# Altium schematic symbol library con-omron.SCHLIB: 107 symbols (part 2 of 3)

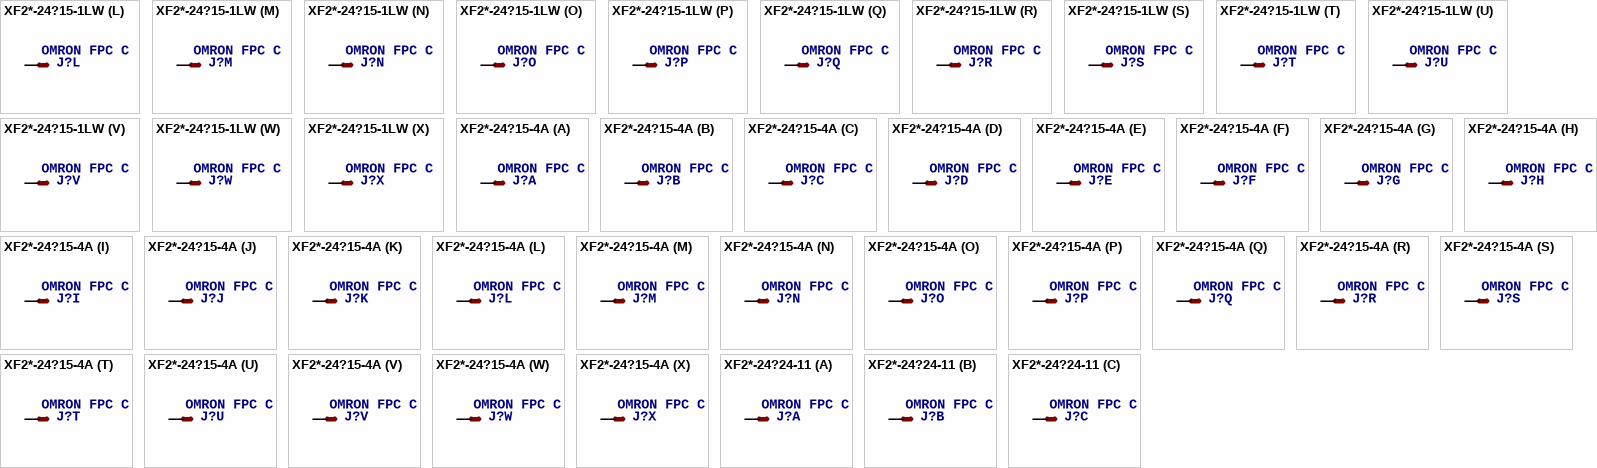
[diagram p23: symbols XF2*-24?15-1LW to XF2*-24?24-11]

## XF2*-24?15-1LW
designator J?, comment OMRON FPC Connector   Source : http://www.omron.com/ecb/products/pdf/fpc.pdf
MPN: XF2H-2415-1LW; MF: OMRON COMPONENTS USA; OC_FARNELL: unknown; OC_NEWARK: 12J5142
footprint XF2H-2415-1LW
part A pins: 1 MSV
part B pins: 2 MS
part C pins: 3 MS
part D pins: 4 MS
part E pins: 5 MS
part F pins: 6 MS
part G pins: 7 MS
part H pins: 8 MS
part I pins: 9 MS
part J pins: 10 MS
part K pins: 11 MS
part L pins: 12 MS
part M pins: 13 MS
part N pins: 14 MS
part O pins: 15 MS
part P pins: 16 MS
part Q pins: 17 MS
part R pins: 18 MS
part S pins: 19 MS
part T pins: 20 MS
part U pins: 21 MS
part V pins: 22 MS
part W pins: 23 MS
part X pins: 24 MS

## XF2*-24?15-4A
designator J?, comment OMRON FPC Connector   Source : http://www.omron.com/ecb/products/pdf/fpc.pdf
MPN: XF2R-2415-4A; OC_FARNELL: unknown; OC_NEWARK: 37M0946
footprint XF2R-2415-4A
part A pins: 1 MSV
part B pins: 2 MS
part C pins: 3 MS
part D pins: 4 MS
part E pins: 5 MS
part F pins: 6 MS
part G pins: 7 MS
part H pins: 8 MS
part I pins: 9 MS
part J pins: 10 MS
part K pins: 11 MS
part L pins: 12 MS
part M pins: 13 MS
part N pins: 14 MS
part O pins: 15 MS
part P pins: 16 MS
part Q pins: 17 MS
part R pins: 18 MS
part S pins: 19 MS
part T pins: 20 MS
part U pins: 21 MS
part V pins: 22 MS
part W pins: 23 MS
part X pins: 24 MS

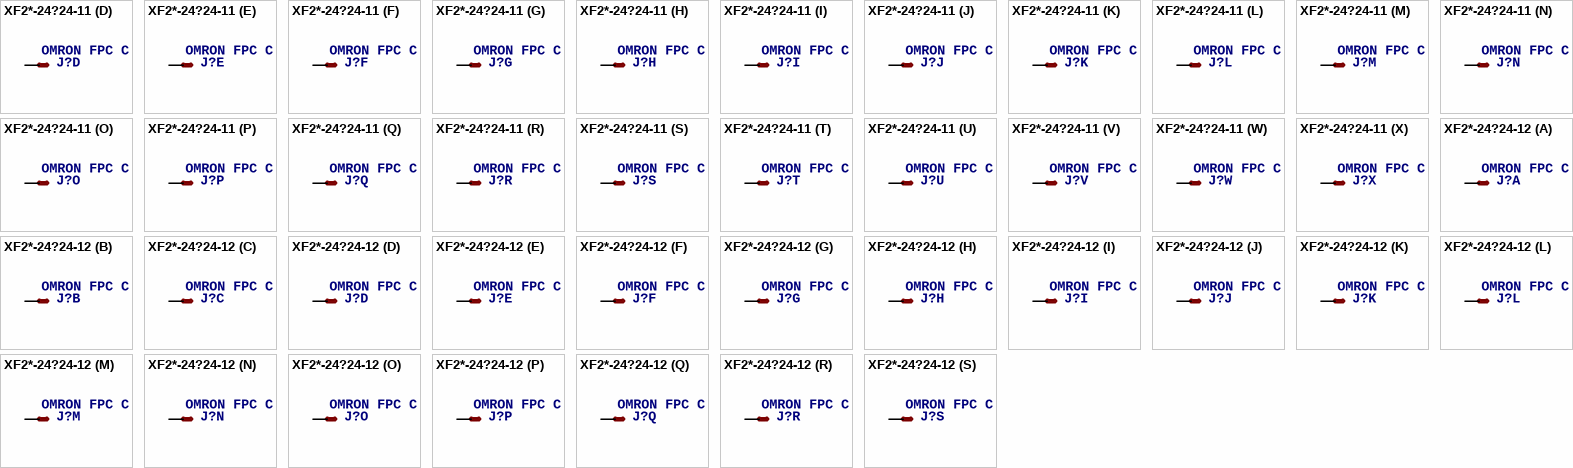
[diagram p24: symbols XF2*-24?24-11 to XF2*-24?24-12]

## XF2*-24?24-11
designator J?, comment OMRON FPC Connector   Source : http://www.omron.com/ecb/products/pdf/fpc.pdf
MPN: XF2J-2424-11A; MF: OMRON COMPONENTS USA; OC_FARNELL: 1206270; OC_NEWARK: 87K0738
footprint XF2J-2424-11
part A pins: 1 MSV
part B pins: 2 MS
part C pins: 3 MS
part D pins: 4 MS
part E pins: 5 MS
part F pins: 6 MS
part G pins: 7 MS
part H pins: 8 MS
part I pins: 9 MS
part J pins: 10 MS
part K pins: 11 MS
part L pins: 12 MS
part M pins: 13 MS
part N pins: 14 MS
part O pins: 15 MS
part P pins: 16 MS
part Q pins: 17 MS
part R pins: 18 MS
part S pins: 19 MS
part T pins: 20 MS
part U pins: 21 MS
part V pins: 22 MS
part W pins: 23 MS
part X pins: 24 MS

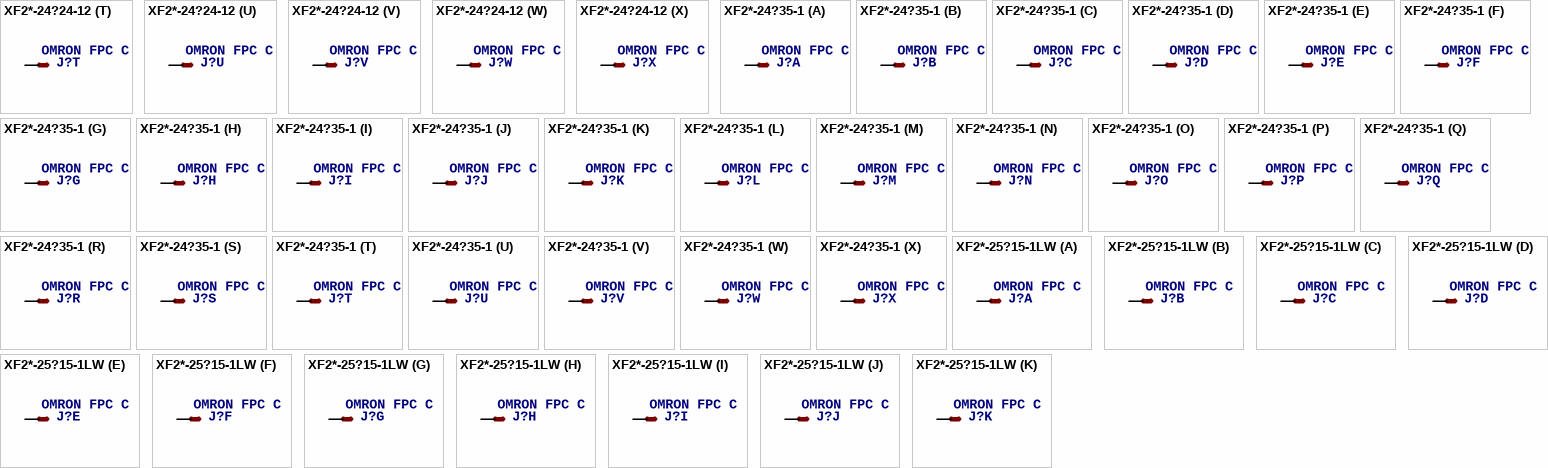
[diagram p25: symbols XF2*-24?24-12 to XF2*-25?15-1LW]

## XF2*-24?24-12
designator J?, comment OMRON FPC Connector   Source : http://www.omron.com/ecb/products/pdf/fpc.pdf
OC_FARNELL: unknown; OC_NEWARK: unknown
footprint XF2J-2424-12
part A pins: 1 MSV
part B pins: 2 MS
part C pins: 3 MS
part D pins: 4 MS
part E pins: 5 MS
part F pins: 6 MS
part G pins: 7 MS
part H pins: 8 MS
part I pins: 9 MS
part J pins: 10 MS
part K pins: 11 MS
part L pins: 12 MS
part M pins: 13 MS
part N pins: 14 MS
part O pins: 15 MS
part P pins: 16 MS
part Q pins: 17 MS
part R pins: 18 MS
part S pins: 19 MS
part T pins: 20 MS
part U pins: 21 MS
part V pins: 22 MS
part W pins: 23 MS
part X pins: 24 MS

## XF2*-24?35-1
designator J?, comment OMRON FPC Connector   Source : http://www.omron.com/ecb/products/pdf/fpc.pdf
MPN: XF2L-2435-1A; OC_FARNELL: unknown; OC_NEWARK: 05M2005
footprint XF2L-2435-1
part A pins: 1 MSV
part B pins: 2 MS
part C pins: 3 MS
part D pins: 4 MS
part E pins: 5 MS
part F pins: 6 MS
part G pins: 7 MS
part H pins: 8 MS
part I pins: 9 MS
part J pins: 10 MS
part K pins: 11 MS
part L pins: 12 MS
part M pins: 13 MS
part N pins: 14 MS
part O pins: 15 MS
part P pins: 16 MS
part Q pins: 17 MS
part R pins: 18 MS
part S pins: 19 MS
part T pins: 20 MS
part U pins: 21 MS
part V pins: 22 MS
part W pins: 23 MS
part X pins: 24 MS

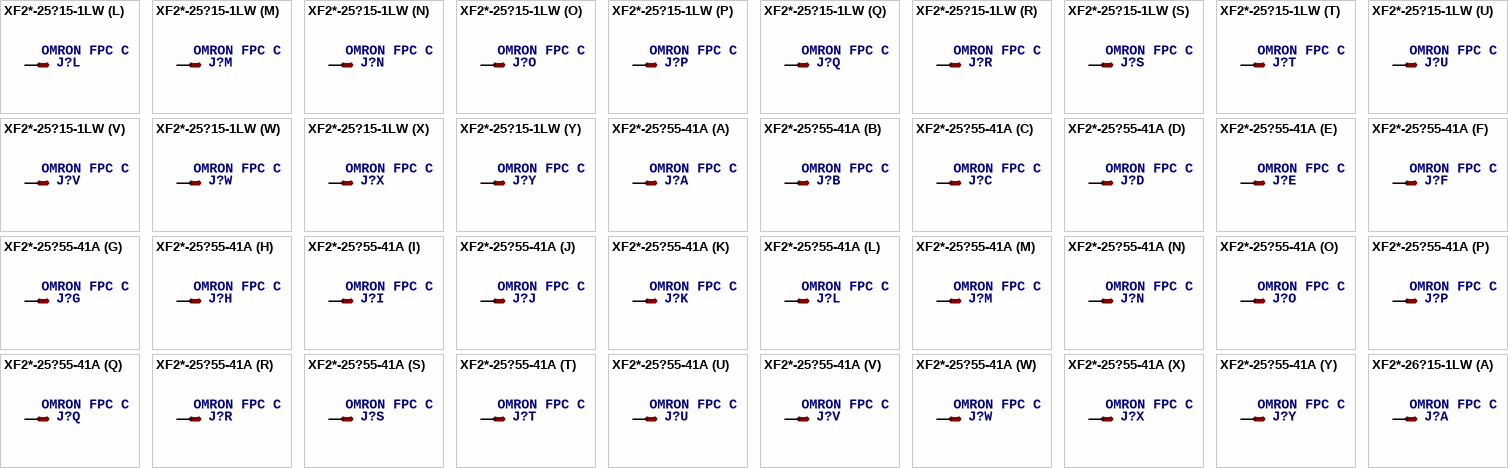
[diagram p26: symbols XF2*-25?15-1LW to XF2*-26?15-1LW]

## XF2*-25?15-1LW
designator J?, comment OMRON FPC Connector   Source : http://www.omron.com/ecb/products/pdf/fpc.pdf
OC_FARNELL: unknown; OC_NEWARK: unknown
footprint XF2H-2515-1LW
part A pins: 1 MSV
part B pins: 2 MS
part C pins: 3 MS
part D pins: 4 MS
part E pins: 5 MS
part F pins: 6 MS
part G pins: 7 MS
part H pins: 8 MS
part I pins: 9 MS
part J pins: 10 MS
part K pins: 11 MS
part L pins: 12 MS
part M pins: 13 MS
part N pins: 14 MS
part O pins: 15 MS
part P pins: 16 MS
part Q pins: 17 MS
part R pins: 18 MS
part S pins: 19 MS
part T pins: 20 MS
part U pins: 21 MS
part V pins: 22 MS
part W pins: 23 MS
part X pins: 24 MS
part Y pins: 25 MS

## XF2*-25?55-41A
designator J?, comment OMRON FPC Connector   Source : http://www.omron.com/ecb/products/pdf/fpc.pdf
MPN: XF2C-2555-41A; OC_FARNELL: unknown; OC_NEWARK: 78M3584
footprint XF2C-2555-41A
part A pins: 1 MSV
part B pins: 2 MS
part C pins: 3 MS
part D pins: 4 MS
part E pins: 5 MS
part F pins: 6 MS
part G pins: 7 MS
part H pins: 8 MS
part I pins: 9 MS
part J pins: 10 MS
part K pins: 11 MS
part L pins: 12 MS
part M pins: 13 MS
part N pins: 14 MS
part O pins: 15 MS
part P pins: 16 MS
part Q pins: 17 MS
part R pins: 18 MS
part S pins: 19 MS
part T pins: 20 MS
part U pins: 21 MS
part V pins: 22 MS
part W pins: 23 MS
part X pins: 24 MS
part Y pins: 25 MS

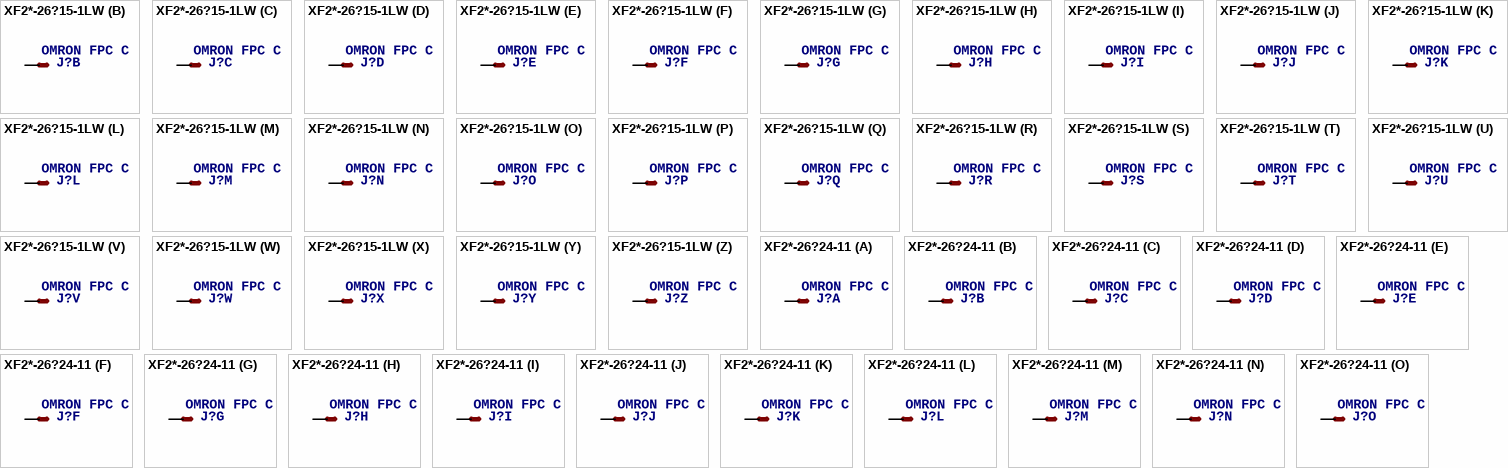
[diagram p27: symbols XF2*-26?15-1LW to XF2*-26?24-11]

## XF2*-26?15-1LW
designator J?, comment OMRON FPC Connector   Source : http://www.omron.com/ecb/products/pdf/fpc.pdf
MPN: XF2H-2615-1LW; MF: OMRON COMPONENTS USA; OC_FARNELL: unknown; OC_NEWARK: 12J5143
footprint XF2H-2615-1LW
part A pins: 1 MSV
part B pins: 2 MS
part C pins: 3 MS
part D pins: 4 MS
part E pins: 5 MS
part F pins: 6 MS
part G pins: 7 MS
part H pins: 8 MS
part I pins: 9 MS
part J pins: 10 MS
part K pins: 11 MS
part L pins: 12 MS
part M pins: 13 MS
part N pins: 14 MS
part O pins: 15 MS
part P pins: 16 MS
part Q pins: 17 MS
part R pins: 18 MS
part S pins: 19 MS
part T pins: 20 MS
part U pins: 21 MS
part V pins: 22 MS
part W pins: 23 MS
part X pins: 24 MS
part Y pins: 25 MS
part Z pins: 26 MS

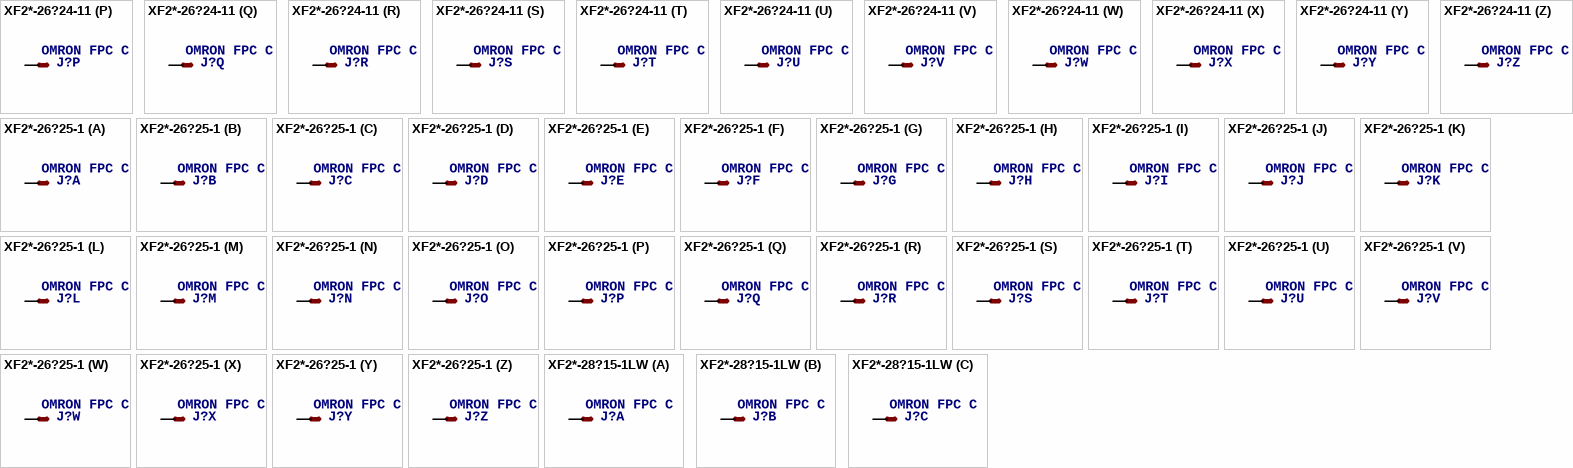
[diagram p28: symbols XF2*-26?24-11 to XF2*-28?15-1LW]

## XF2*-26?24-11
designator J?, comment OMRON FPC Connector   Source : http://www.omron.com/ecb/products/pdf/fpc.pdf
MPN: XF2J-2624-11; MF: OMRON COMPONENTS USA; OC_FARNELL: unknown; OC_NEWARK: 89C8575
footprint XF2J-2624-11
part A pins: 1 MSV
part B pins: 2 MS
part C pins: 3 MS
part D pins: 4 MS
part E pins: 5 MS
part F pins: 6 MS
part G pins: 7 MS
part H pins: 8 MS
part I pins: 9 MS
part J pins: 10 MS
part K pins: 11 MS
part L pins: 12 MS
part M pins: 13 MS
part N pins: 14 MS
part O pins: 15 MS
part P pins: 16 MS
part Q pins: 17 MS
part R pins: 18 MS
part S pins: 19 MS
part T pins: 20 MS
part U pins: 21 MS
part V pins: 22 MS
part W pins: 23 MS
part X pins: 24 MS
part Y pins: 25 MS
part Z pins: 26 MS

## XF2*-26?25-1
designator J?, comment OMRON FPC Connector   Source : http://www.omron.com/ecb/products/pdf/fpc.pdf
MPN: XF2L-2625-1; OC_FARNELL: unknown; OC_NEWARK: 37M0900
footprint XF2L-2625-1
part A pins: 1 MSV
part B pins: 2 MS
part C pins: 3 MS
part D pins: 4 MS
part E pins: 5 MS
part F pins: 6 MS
part G pins: 7 MS
part H pins: 8 MS
part I pins: 9 MS
part J pins: 10 MS
part K pins: 11 MS
part L pins: 12 MS
part M pins: 13 MS
part N pins: 14 MS
part O pins: 15 MS
part P pins: 16 MS
part Q pins: 17 MS
part R pins: 18 MS
part S pins: 19 MS
part T pins: 20 MS
part U pins: 21 MS
part V pins: 22 MS
part W pins: 23 MS
part X pins: 24 MS
part Y pins: 25 MS
part Z pins: 26 MS

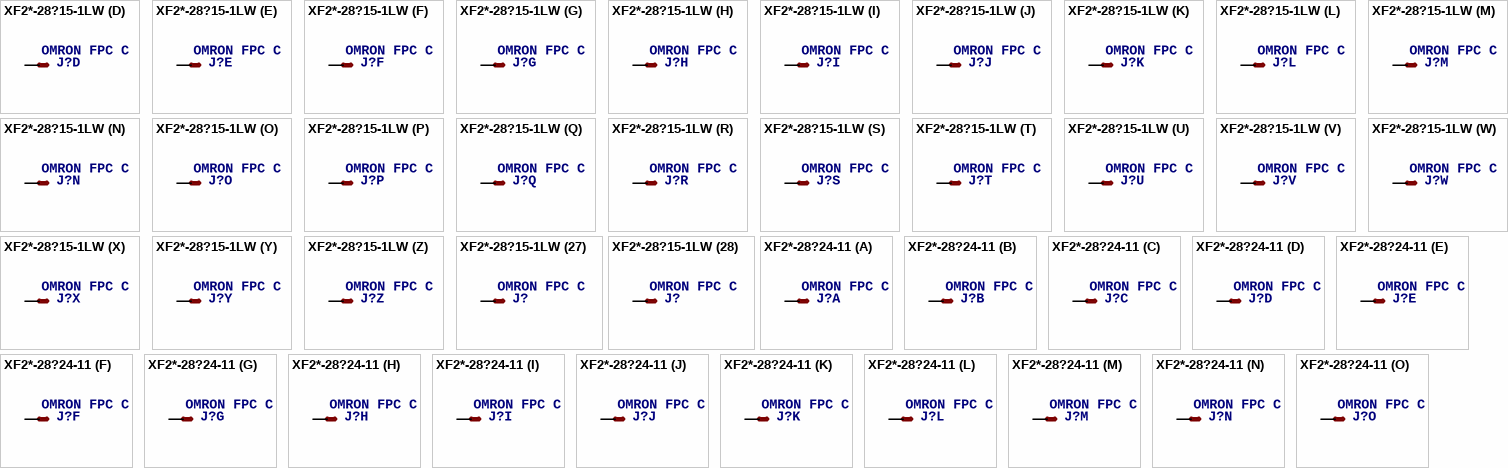
[diagram p29: symbols XF2*-28?15-1LW to XF2*-28?24-11]

## XF2*-28?15-1LW
designator J?, comment OMRON FPC Connector   Source : http://www.omron.com/ecb/products/pdf/fpc.pdf
OC_FARNELL: unknown; OC_NEWARK: unknown
footprint XF2H-2815-1LW
part A pins: 1 MSV
part B pins: 2 MS
part C pins: 3 MS
part D pins: 4 MS
part E pins: 5 MS
part F pins: 6 MS
part G pins: 7 MS
part H pins: 8 MS
part I pins: 9 MS
part J pins: 10 MS
part K pins: 11 MS
part L pins: 12 MS
part M pins: 13 MS
part N pins: 14 MS
part O pins: 15 MS
part P pins: 16 MS
part Q pins: 17 MS
part R pins: 18 MS
part S pins: 19 MS
part T pins: 20 MS
part U pins: 21 MS
part V pins: 22 MS
part W pins: 23 MS
part X pins: 24 MS
part Y pins: 25 MS
part Z pins: 26 MS
part 27 pins: 27 MS
part 28 pins: 28 MS

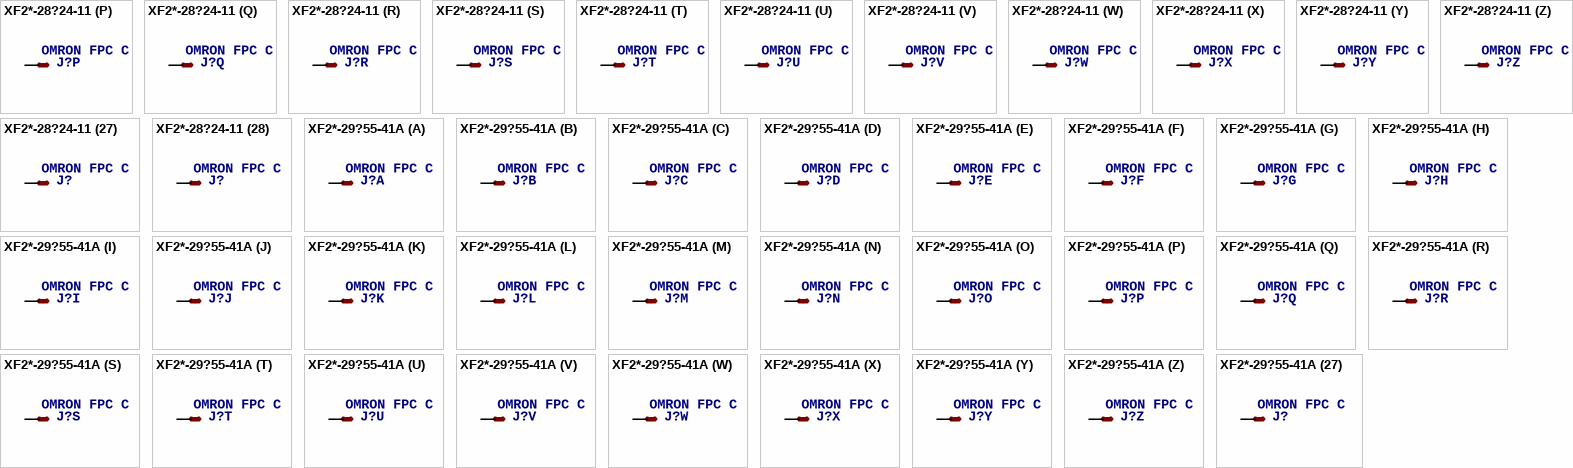
[diagram p30: symbols XF2*-28?24-11 to XF2*-29?55-41A]

## XF2*-28?24-11
designator J?, comment OMRON FPC Connector   Source : http://www.omron.com/ecb/products/pdf/fpc.pdf
MPN: XF2J-2824-11; MF: OMRON COMPONENTS USA; OC_FARNELL: unknown; OC_NEWARK: 89C8578
footprint XF2J-2824-11
part A pins: 1 MSV
part B pins: 2 MS
part C pins: 3 MS
part D pins: 4 MS
part E pins: 5 MS
part F pins: 6 MS
part G pins: 7 MS
part H pins: 8 MS
part I pins: 9 MS
part J pins: 10 MS
part K pins: 11 MS
part L pins: 12 MS
part M pins: 13 MS
part N pins: 14 MS
part O pins: 15 MS
part P pins: 16 MS
part Q pins: 17 MS
part R pins: 18 MS
part S pins: 19 MS
part T pins: 20 MS
part U pins: 21 MS
part V pins: 22 MS
part W pins: 23 MS
part X pins: 24 MS
part Y pins: 25 MS
part Z pins: 26 MS
part 27 pins: 27 MS
part 28 pins: 28 MS

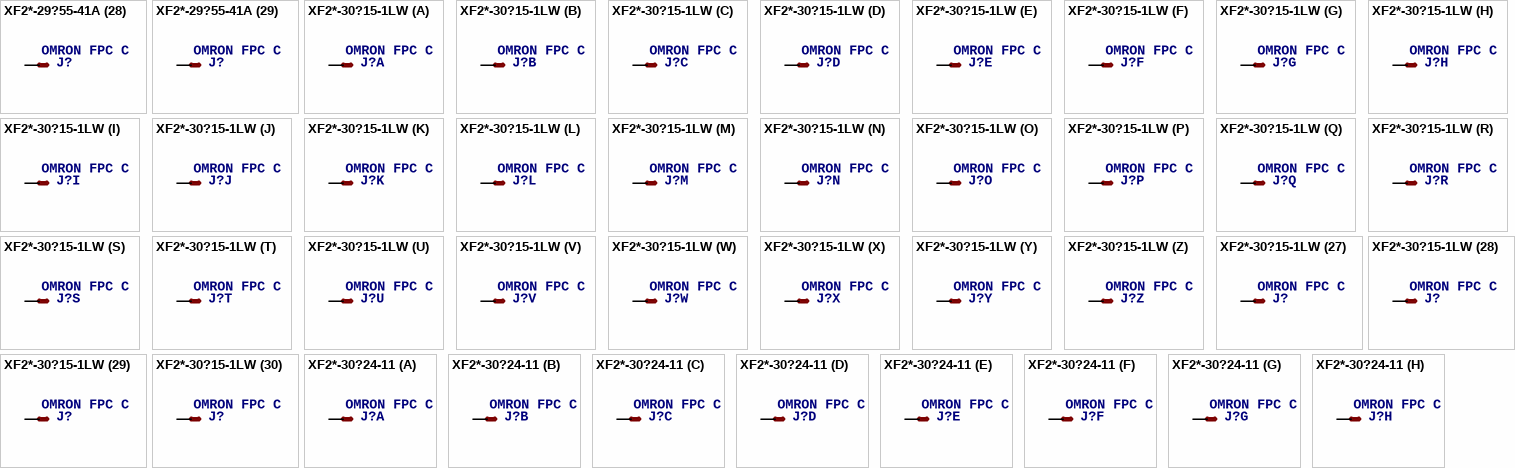
[diagram p31: symbols XF2*-29?55-41A to XF2*-30?24-11]

## XF2*-29?55-41A
designator J?, comment OMRON FPC Connector   Source : http://www.omron.com/ecb/products/pdf/fpc.pdf
OC_FARNELL: unknown; OC_NEWARK: unknown
footprint XF2C-2955-41A
part A pins: 1 MSV
part B pins: 2 MS
part C pins: 3 MS
part D pins: 4 MS
part E pins: 5 MS
part F pins: 6 MS
part G pins: 7 MS
part H pins: 8 MS
part I pins: 9 MS
part J pins: 10 MS
part K pins: 11 MS
part L pins: 12 MS
part M pins: 13 MS
part N pins: 14 MS
part O pins: 15 MS
part P pins: 16 MS
part Q pins: 17 MS
part R pins: 18 MS
part S pins: 19 MS
part T pins: 20 MS
part U pins: 21 MS
part V pins: 22 MS
part W pins: 23 MS
part X pins: 24 MS
part Y pins: 25 MS
part Z pins: 26 MS
part 27 pins: 27 MS
part 28 pins: 28 MS
part 29 pins: 29 MS

## XF2*-30?15-1LW
designator J?, comment OMRON FPC Connector   Source : http://www.omron.com/ecb/products/pdf/fpc.pdf
OC_FARNELL: unknown; OC_NEWARK: unknown
footprint XF2H-3015-1LW
part A pins: 1 MSV
part B pins: 2 MS
part C pins: 3 MS
part D pins: 4 MS
part E pins: 5 MS
part F pins: 6 MS
part G pins: 7 MS
part H pins: 8 MS
part I pins: 9 MS
part J pins: 10 MS
part K pins: 11 MS
part L pins: 12 MS
part M pins: 13 MS
part N pins: 14 MS
part O pins: 15 MS
part P pins: 16 MS
part Q pins: 17 MS
part R pins: 18 MS
part S pins: 19 MS
part T pins: 20 MS
part U pins: 21 MS
part V pins: 22 MS
part W pins: 23 MS
part X pins: 24 MS
part Y pins: 25 MS
part Z pins: 26 MS
part 27 pins: 27 MS
part 28 pins: 28 MS
part 29 pins: 29 MS
part 30 pins: 30 MS

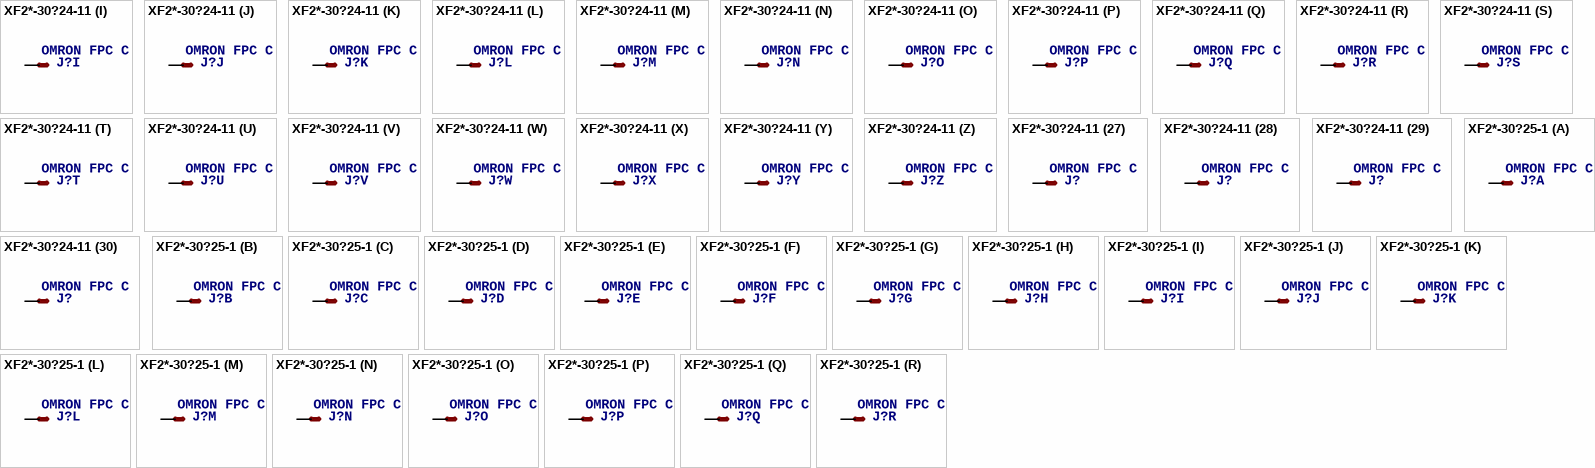
[diagram p32: symbols XF2*-30?24-11 to XF2*-30?25-1]

## XF2*-30?24-11
designator J?, comment OMRON FPC Connector   Source : http://www.omron.com/ecb/products/pdf/fpc.pdf
MPN: XF2J-3024-11; OC_FARNELL: 1430938; OC_NEWARK: 37M0856
footprint XF2J-3024-11
part A pins: 1 MSV
part B pins: 2 MS
part C pins: 3 MS
part D pins: 4 MS
part E pins: 5 MS
part F pins: 6 MS
part G pins: 7 MS
part H pins: 8 MS
part I pins: 9 MS
part J pins: 10 MS
part K pins: 11 MS
part L pins: 12 MS
part M pins: 13 MS
part N pins: 14 MS
part O pins: 15 MS
part P pins: 16 MS
part Q pins: 17 MS
part R pins: 18 MS
part S pins: 19 MS
part T pins: 20 MS
part U pins: 21 MS
part V pins: 22 MS
part W pins: 23 MS
part X pins: 24 MS
part Y pins: 25 MS
part Z pins: 26 MS
part 27 pins: 27 MS
part 28 pins: 28 MS
part 29 pins: 29 MS
part 30 pins: 30 MS

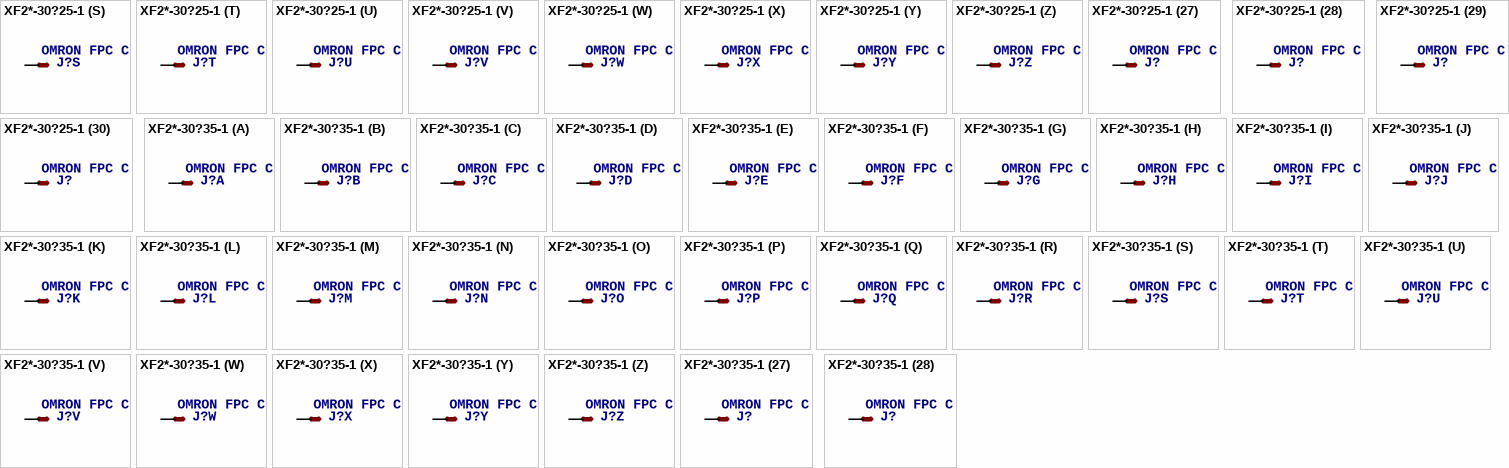
[diagram p33: symbols XF2*-30?25-1 to XF2*-30?35-1]

## XF2*-30?25-1
designator J?, comment OMRON FPC Connector   Source : http://www.omron.com/ecb/products/pdf/fpc.pdf
MPN: XF2L-3025-1A; OC_FARNELL: 1536111; OC_NEWARK: 05M2007
footprint XF2L-3025-1
part A pins: 1 MSV
part B pins: 2 MS
part C pins: 3 MS
part D pins: 4 MS
part E pins: 5 MS
part F pins: 6 MS
part G pins: 7 MS
part H pins: 8 MS
part I pins: 9 MS
part J pins: 10 MS
part K pins: 11 MS
part L pins: 12 MS
part M pins: 13 MS
part N pins: 14 MS
part O pins: 15 MS
part P pins: 16 MS
part Q pins: 17 MS
part R pins: 18 MS
part S pins: 19 MS
part T pins: 20 MS
part U pins: 21 MS
part V pins: 22 MS
part W pins: 23 MS
part X pins: 24 MS
part Y pins: 25 MS
part Z pins: 26 MS
part 27 pins: 27 MS
part 28 pins: 28 MS
part 29 pins: 29 MS
part 30 pins: 30 MS

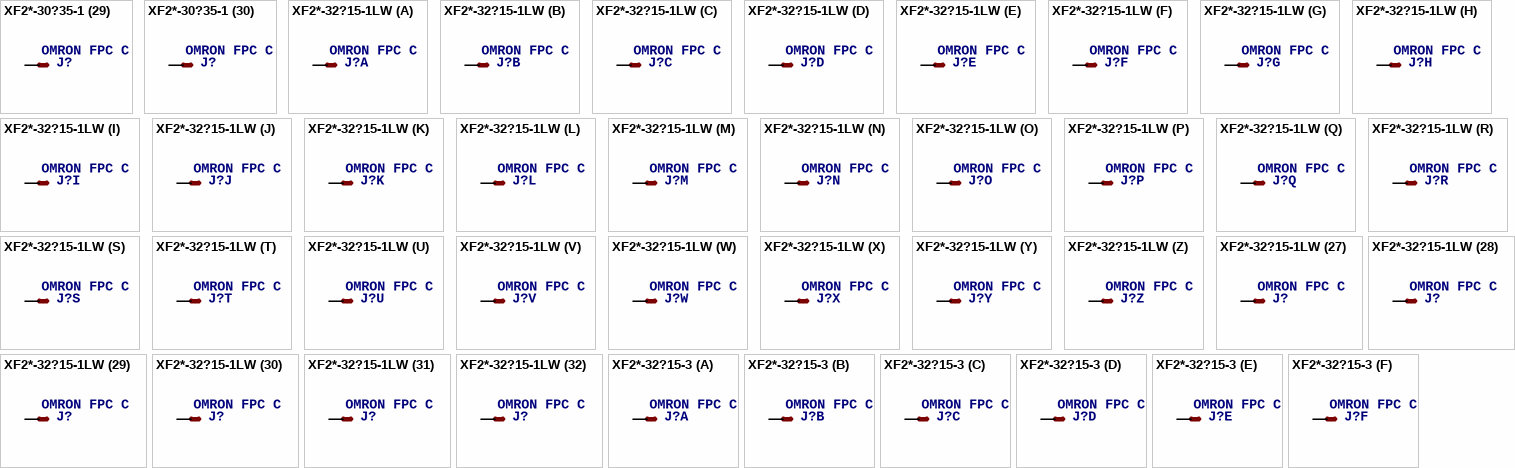
[diagram p34: symbols XF2*-30?35-1 to XF2*-32?15-3]

## XF2*-30?35-1
designator J?, comment OMRON FPC Connector   Source : http://www.omron.com/ecb/products/pdf/fpc.pdf
MPN: XF2L-3035-1A; OC_FARNELL: 1430931; OC_NEWARK: 05M2008
footprint XF2L-3035-1
part A pins: 1 MSV
part B pins: 2 MS
part C pins: 3 MS
part D pins: 4 MS
part E pins: 5 MS
part F pins: 6 MS
part G pins: 7 MS
part H pins: 8 MS
part I pins: 9 MS
part J pins: 10 MS
part K pins: 11 MS
part L pins: 12 MS
part M pins: 13 MS
part N pins: 14 MS
part O pins: 15 MS
part P pins: 16 MS
part Q pins: 17 MS
part R pins: 18 MS
part S pins: 19 MS
part T pins: 20 MS
part U pins: 21 MS
part V pins: 22 MS
part W pins: 23 MS
part X pins: 24 MS
part Y pins: 25 MS
part Z pins: 26 MS
part 27 pins: 27 MS
part 28 pins: 28 MS
part 29 pins: 29 MS
part 30 pins: 30 MS

## XF2*-32?15-1LW
designator J?, comment OMRON FPC Connector   Source : http://www.omron.com/ecb/products/pdf/fpc.pdf
MPN: XF2H-3215-1LW; MF: OMRON COMPONENTS USA; OC_FARNELL: unknown; OC_NEWARK: 12J5145
footprint XF2H-3215-1LW
part A pins: 1 MSV
part B pins: 2 MS
part C pins: 3 MS
part D pins: 4 MS
part E pins: 5 MS
part F pins: 6 MS
part G pins: 7 MS
part H pins: 8 MS
part I pins: 9 MS
part J pins: 10 MS
part K pins: 11 MS
part L pins: 12 MS
part M pins: 13 MS
part N pins: 14 MS
part O pins: 15 MS
part P pins: 16 MS
part Q pins: 17 MS
part R pins: 18 MS
part S pins: 19 MS
part T pins: 20 MS
part U pins: 21 MS
part V pins: 22 MS
part W pins: 23 MS
part X pins: 24 MS
part Y pins: 25 MS
part Z pins: 26 MS
part 27 pins: 27 MS
part 28 pins: 28 MS
part 29 pins: 29 MS
part 30 pins: 30 MS
part 31 pins: 31 MS
part 32 pins: 32 MS

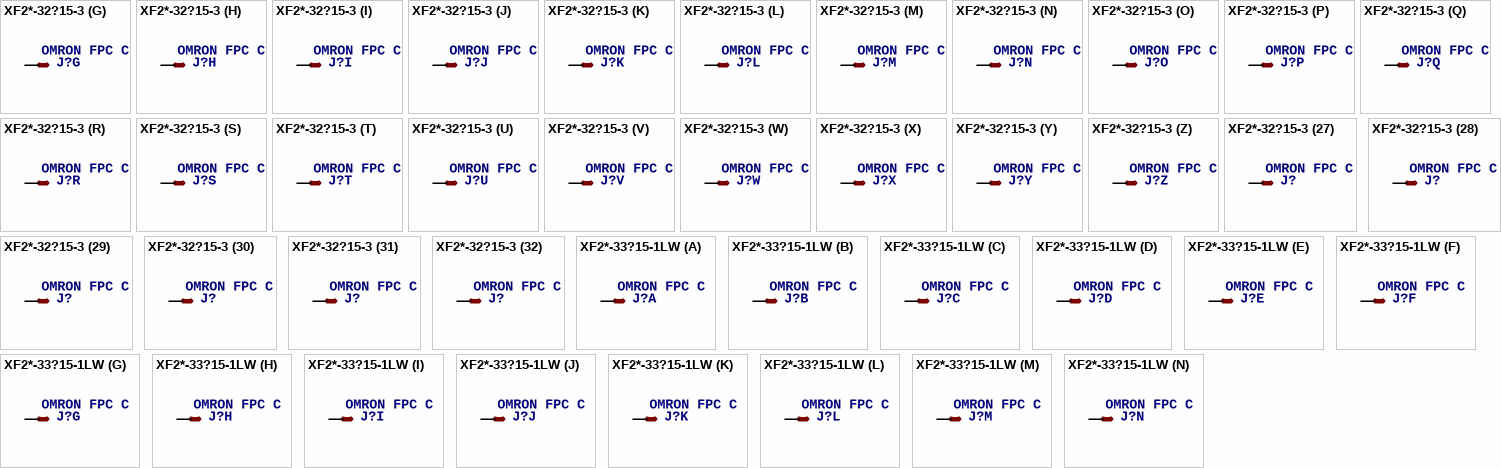
[diagram p35: symbols XF2*-32?15-3 to XF2*-33?15-1LW]

## XF2*-32?15-3
designator J?, comment OMRON FPC Connector   Source : http://www.omron.com/ecb/products/pdf/fpc.pdf
MPN: XF2N-3215-3; OC_FARNELL: unknown; OC_NEWARK: 37M0942
footprint XF2N-3215-3
part A pins: 1 MSV
part B pins: 2 MS
part C pins: 3 MS
part D pins: 4 MS
part E pins: 5 MS
part F pins: 6 MS
part G pins: 7 MS
part H pins: 8 MS
part I pins: 9 MS
part J pins: 10 MS
part K pins: 11 MS
part L pins: 12 MS
part M pins: 13 MS
part N pins: 14 MS
part O pins: 15 MS
part P pins: 16 MS
part Q pins: 17 MS
part R pins: 18 MS
part S pins: 19 MS
part T pins: 20 MS
part U pins: 21 MS
part V pins: 22 MS
part W pins: 23 MS
part X pins: 24 MS
part Y pins: 25 MS
part Z pins: 26 MS
part 27 pins: 27 MS
part 28 pins: 28 MS
part 29 pins: 29 MS
part 30 pins: 30 MS
part 31 pins: 31 MS
part 32 pins: 32 MS

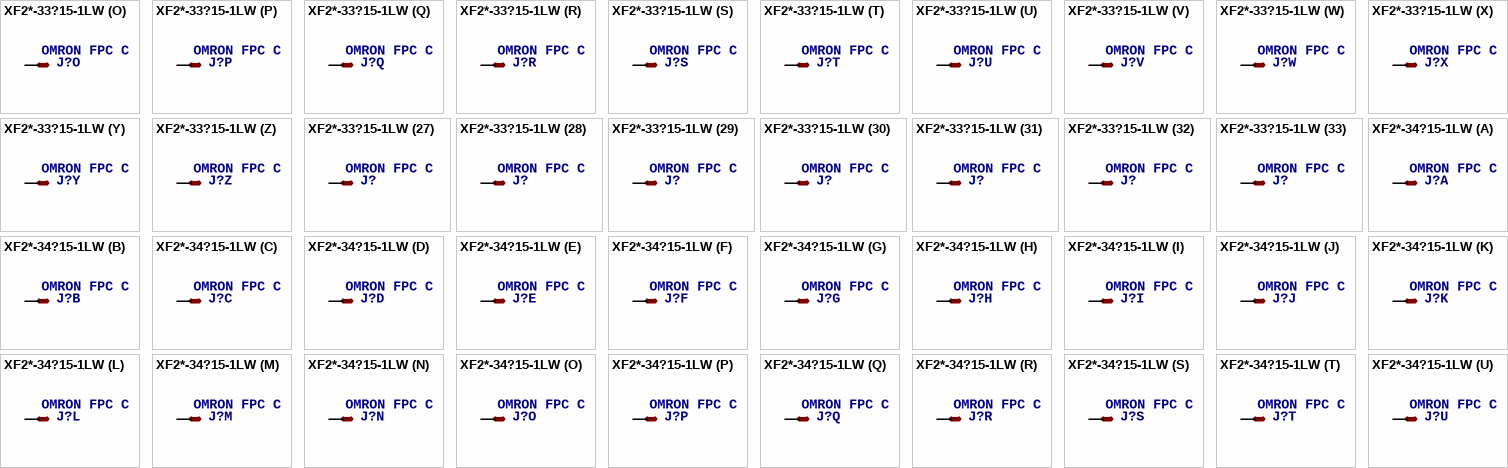
[diagram p36: symbols XF2*-33?15-1LW to XF2*-34?15-1LW]

## XF2*-33?15-1LW
designator J?, comment OMRON FPC Connector   Source : http://www.omron.com/ecb/products/pdf/fpc.pdf
MPN: XF2H-3315-1LW; OC_FARNELL: unknown; OC_NEWARK: 12J5146
footprint XF2H-3315-1LW
part A pins: 1 MSV
part B pins: 2 MS
part C pins: 3 MS
part D pins: 4 MS
part E pins: 5 MS
part F pins: 6 MS
part G pins: 7 MS
part H pins: 8 MS
part I pins: 9 MS
part J pins: 10 MS
part K pins: 11 MS
part L pins: 12 MS
part M pins: 13 MS
part N pins: 14 MS
part O pins: 15 MS
part P pins: 16 MS
part Q pins: 17 MS
part R pins: 18 MS
part S pins: 19 MS
part T pins: 20 MS
part U pins: 21 MS
part V pins: 22 MS
part W pins: 23 MS
part X pins: 24 MS
part Y pins: 25 MS
part Z pins: 26 MS
part 27 pins: 27 MS
part 28 pins: 28 MS
part 29 pins: 29 MS
part 30 pins: 30 MS
part 31 pins: 31 MS
part 32 pins: 32 MS
part 33 pins: 33 MS

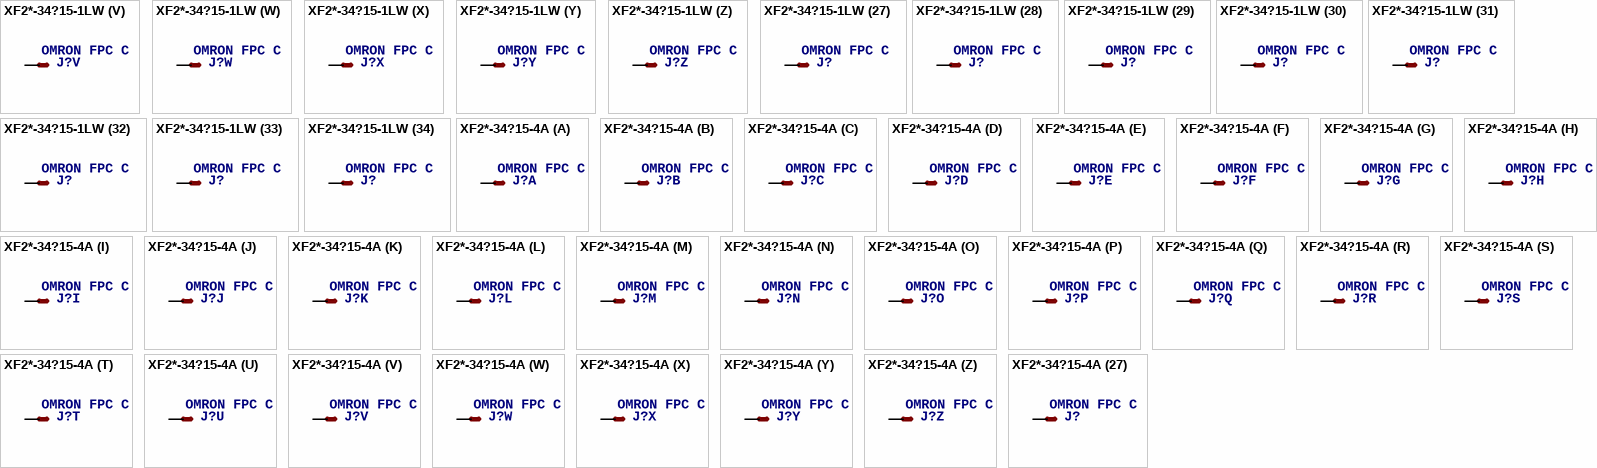
[diagram p37: symbols XF2*-34?15-1LW to XF2*-34?15-4A]

## XF2*-34?15-1LW
designator J?, comment OMRON FPC Connector   Source : http://www.omron.com/ecb/products/pdf/fpc.pdf
MPN: XF2H-3415-1LW; MF: OMRON COMPONENTS USA; OC_FARNELL: unknown; OC_NEWARK: 12J5147
footprint XF2H-3415-1LW
part A pins: 1 MSV
part B pins: 2 MS
part C pins: 3 MS
part D pins: 4 MS
part E pins: 5 MS
part F pins: 6 MS
part G pins: 7 MS
part H pins: 8 MS
part I pins: 9 MS
part J pins: 10 MS
part K pins: 11 MS
part L pins: 12 MS
part M pins: 13 MS
part N pins: 14 MS
part O pins: 15 MS
part P pins: 16 MS
part Q pins: 17 MS
part R pins: 18 MS
part S pins: 19 MS
part T pins: 20 MS
part U pins: 21 MS
part V pins: 22 MS
part W pins: 23 MS
part X pins: 24 MS
part Y pins: 25 MS
part Z pins: 26 MS
part 27 pins: 27 MS
part 28 pins: 28 MS
part 29 pins: 29 MS
part 30 pins: 30 MS
part 31 pins: 31 MS
part 32 pins: 32 MS
part 33 pins: 33 MS
part 34 pins: 34 MS

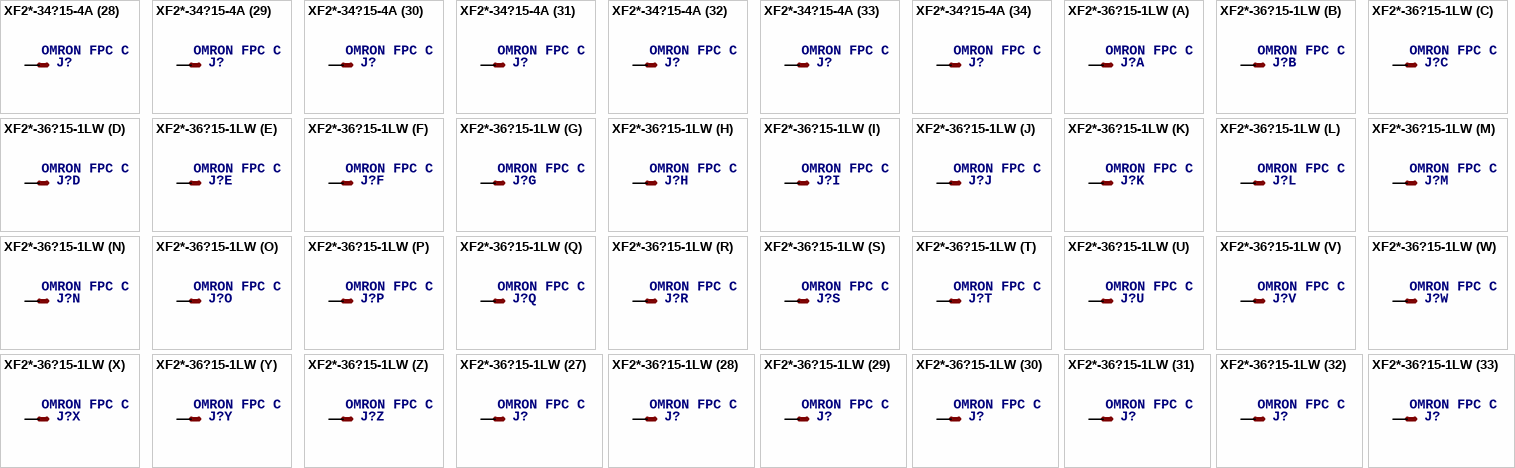
[diagram p38: symbols XF2*-34?15-4A to XF2*-36?15-1LW]

## XF2*-34?15-4A
designator J?, comment OMRON FPC Connector   Source : http://www.omron.com/ecb/products/pdf/fpc.pdf
MPN: XF2R-3415-4A; OC_FARNELL: unknown; OC_NEWARK: 37M0947
footprint XF2R-3415-4A
part A pins: 1 MSV
part B pins: 2 MS
part C pins: 3 MS
part D pins: 4 MS
part E pins: 5 MS
part F pins: 6 MS
part G pins: 7 MS
part H pins: 8 MS
part I pins: 9 MS
part J pins: 10 MS
part K pins: 11 MS
part L pins: 12 MS
part M pins: 13 MS
part N pins: 14 MS
part O pins: 15 MS
part P pins: 16 MS
part Q pins: 17 MS
part R pins: 18 MS
part S pins: 19 MS
part T pins: 20 MS
part U pins: 21 MS
part V pins: 22 MS
part W pins: 23 MS
part X pins: 24 MS
part Y pins: 25 MS
part Z pins: 26 MS
part 27 pins: 27 MS
part 28 pins: 28 MS
part 29 pins: 29 MS
part 30 pins: 30 MS
part 31 pins: 31 MS
part 32 pins: 32 MS
part 33 pins: 33 MS
part 34 pins: 34 MS

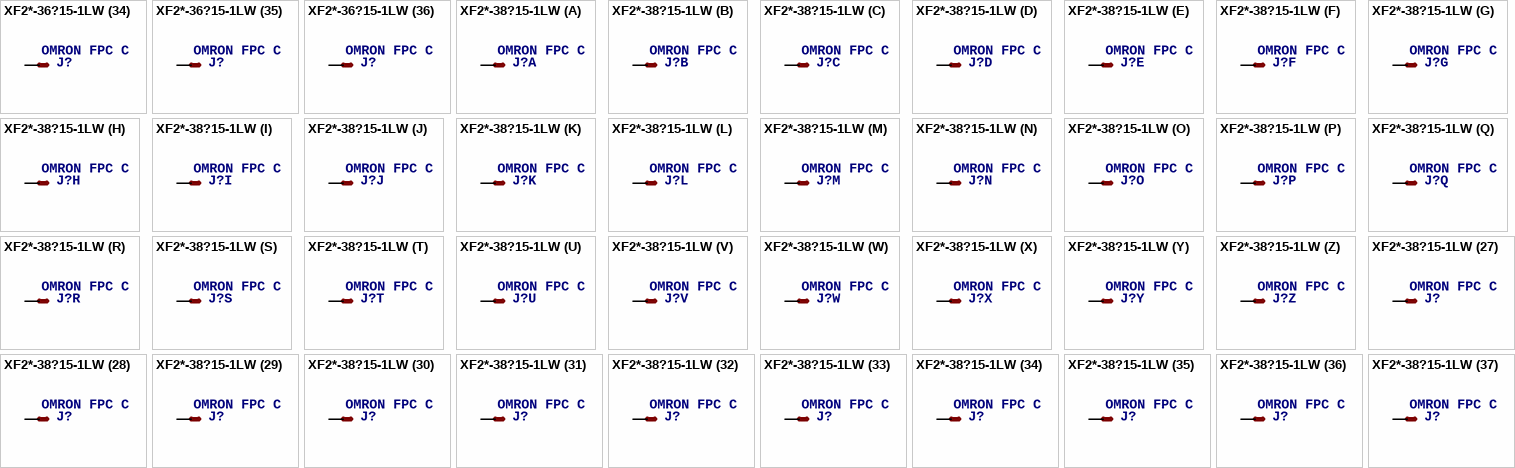
[diagram p39: symbols XF2*-36?15-1LW to XF2*-38?15-1LW]

## XF2*-36?15-1LW
designator J?, comment OMRON FPC Connector   Source : http://www.omron.com/ecb/products/pdf/fpc.pdf
MPN: XF2H-3615-1LW; MF: OMRON COMPONENTS USA; OC_FARNELL: unknown; OC_NEWARK: 12J5149
footprint XF2H-3615-1LW
part A pins: 1 MSV
part B pins: 2 MS
part C pins: 3 MS
part D pins: 4 MS
part E pins: 5 MS
part F pins: 6 MS
part G pins: 7 MS
part H pins: 8 MS
part I pins: 9 MS
part J pins: 10 MS
part K pins: 11 MS
part L pins: 12 MS
part M pins: 13 MS
part N pins: 14 MS
part O pins: 15 MS
part P pins: 16 MS
part Q pins: 17 MS
part R pins: 18 MS
part S pins: 19 MS
part T pins: 20 MS
part U pins: 21 MS
part V pins: 22 MS
part W pins: 23 MS
part X pins: 24 MS
part Y pins: 25 MS
part Z pins: 26 MS
part 27 pins: 27 MS
part 28 pins: 28 MS
part 29 pins: 29 MS
part 30 pins: 30 MS
part 31 pins: 31 MS
part 32 pins: 32 MS
part 33 pins: 33 MS
part 34 pins: 34 MS
part 35 pins: 35 MS
part 36 pins: 36 MS

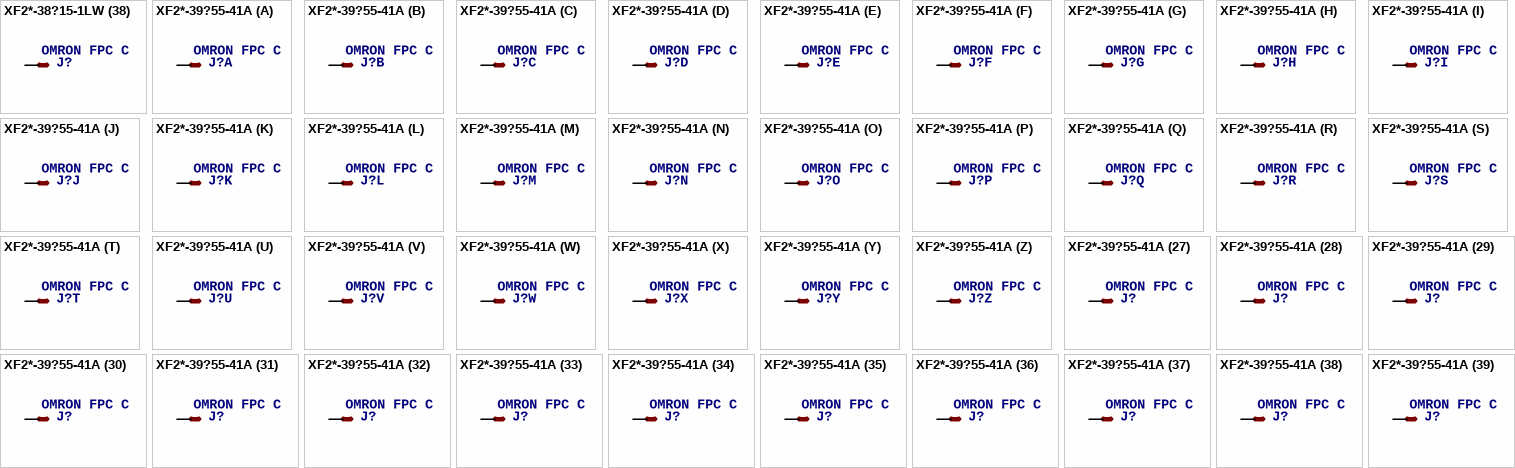
[diagram p40: symbols XF2*-38?15-1LW to XF2*-39?55-41A]

## XF2*-38?15-1LW
designator J?, comment OMRON FPC Connector   Source : http://www.omron.com/ecb/products/pdf/fpc.pdf
OC_FARNELL: unknown; OC_NEWARK: unknown
footprint XF2H-3815-1LW
part A pins: 1 MSV
part B pins: 2 MS
part C pins: 3 MS
part D pins: 4 MS
part E pins: 5 MS
part F pins: 6 MS
part G pins: 7 MS
part H pins: 8 MS
part I pins: 9 MS
part J pins: 10 MS
part K pins: 11 MS
part L pins: 12 MS
part M pins: 13 MS
part N pins: 14 MS
part O pins: 15 MS
part P pins: 16 MS
part Q pins: 17 MS
part R pins: 18 MS
part S pins: 19 MS
part T pins: 20 MS
part U pins: 21 MS
part V pins: 22 MS
part W pins: 23 MS
part X pins: 24 MS
part Y pins: 25 MS
part Z pins: 26 MS
part 27 pins: 27 MS
part 28 pins: 28 MS
part 29 pins: 29 MS
part 30 pins: 30 MS
part 31 pins: 31 MS
part 32 pins: 32 MS
part 33 pins: 33 MS
part 34 pins: 34 MS
part 35 pins: 35 MS
part 36 pins: 36 MS
part 37 pins: 37 MS
part 38 pins: 38 MS

## XF2*-39?55-41A
designator J?, comment OMRON FPC Connector   Source : http://www.omron.com/ecb/products/pdf/fpc.pdf
MPN: XF2C-3955-41A; OC_FARNELL: unknown; OC_NEWARK: unknown; OC_FARNELL: 1430934; OC_NEWARK: 78M3587
footprint XF2C-3955-41A
part A pins: 1 MSV
part B pins: 2 MS
part C pins: 3 MS
part D pins: 4 MS
part E pins: 5 MS
part F pins: 6 MS
part G pins: 7 MS
part H pins: 8 MS
part I pins: 9 MS
part J pins: 10 MS
part K pins: 11 MS
part L pins: 12 MS
part M pins: 13 MS
part N pins: 14 MS
part O pins: 15 MS
part P pins: 16 MS
part Q pins: 17 MS
part R pins: 18 MS
part S pins: 19 MS
part T pins: 20 MS
part U pins: 21 MS
part V pins: 22 MS
part W pins: 23 MS
part X pins: 24 MS
part Y pins: 25 MS
part Z pins: 26 MS
part 27 pins: 27 MS
part 28 pins: 28 MS
part 29 pins: 29 MS
part 30 pins: 30 MS
part 31 pins: 31 MS
part 32 pins: 32 MS
part 33 pins: 33 MS
part 34 pins: 34 MS
part 35 pins: 35 MS
part 36 pins: 36 MS
part 37 pins: 37 MS
part 38 pins: 38 MS
part 39 pins: 39 MS

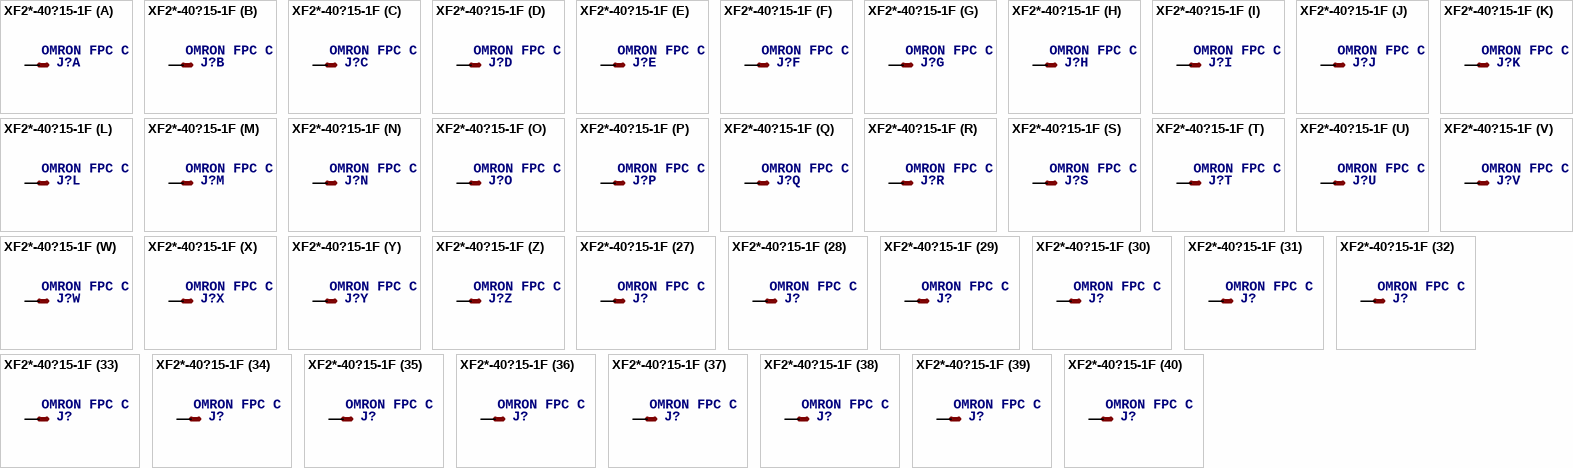
[diagram p41: symbol XF2*-40?15-1F]

## XF2*-40?15-1F
designator J?, comment OMRON FPC Connector   Source : http://www.omron.com/ecb/products/pdf/fpc.pdf
OC_FARNELL: unknown; OC_NEWARK: unknown
footprint XF2M-4015-1F
part A pins: 1 MSV
part B pins: 2 MS
part C pins: 3 MS
part D pins: 4 MS
part E pins: 5 MS
part F pins: 6 MS
part G pins: 7 MS
part H pins: 8 MS
part I pins: 9 MS
part J pins: 10 MS
part K pins: 11 MS
part L pins: 12 MS
part M pins: 13 MS
part N pins: 14 MS
part O pins: 15 MS
part P pins: 16 MS
part Q pins: 17 MS
part R pins: 18 MS
part S pins: 19 MS
part T pins: 20 MS
part U pins: 21 MS
part V pins: 22 MS
part W pins: 23 MS
part X pins: 24 MS
part Y pins: 25 MS
part Z pins: 26 MS
part 27 pins: 27 MS
part 28 pins: 28 MS
part 29 pins: 29 MS
part 30 pins: 30 MS
part 31 pins: 31 MS
part 32 pins: 32 MS
part 33 pins: 33 MS
part 34 pins: 34 MS
part 35 pins: 35 MS
part 36 pins: 36 MS
part 37 pins: 37 MS
part 38 pins: 38 MS
part 39 pins: 39 MS
part 40 pins: 40 MS

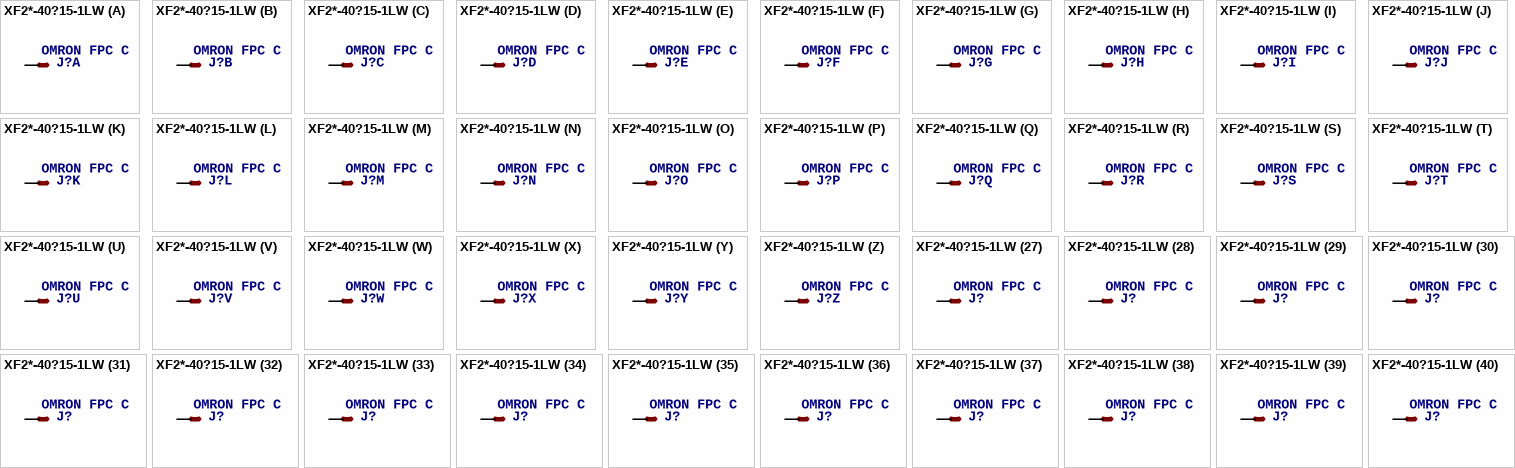
[diagram p42: symbol XF2*-40?15-1LW]

## XF2*-40?15-1LW
designator J?, comment OMRON FPC Connector   Source : http://www.omron.com/ecb/products/pdf/fpc.pdf
OC_FARNELL: unknown; OC_NEWARK: unknown
footprint XF2H-4015-1LW
part A pins: 1 MSV
part B pins: 2 MS
part C pins: 3 MS
part D pins: 4 MS
part E pins: 5 MS
part F pins: 6 MS
part G pins: 7 MS
part H pins: 8 MS
part I pins: 9 MS
part J pins: 10 MS
part K pins: 11 MS
part L pins: 12 MS
part M pins: 13 MS
part N pins: 14 MS
part O pins: 15 MS
part P pins: 16 MS
part Q pins: 17 MS
part R pins: 18 MS
part S pins: 19 MS
part T pins: 20 MS
part U pins: 21 MS
part V pins: 22 MS
part W pins: 23 MS
part X pins: 24 MS
part Y pins: 25 MS
part Z pins: 26 MS
part 27 pins: 27 MS
part 28 pins: 28 MS
part 29 pins: 29 MS
part 30 pins: 30 MS
part 31 pins: 31 MS
part 32 pins: 32 MS
part 33 pins: 33 MS
part 34 pins: 34 MS
part 35 pins: 35 MS
part 36 pins: 36 MS
part 37 pins: 37 MS
part 38 pins: 38 MS
part 39 pins: 39 MS
part 40 pins: 40 MS

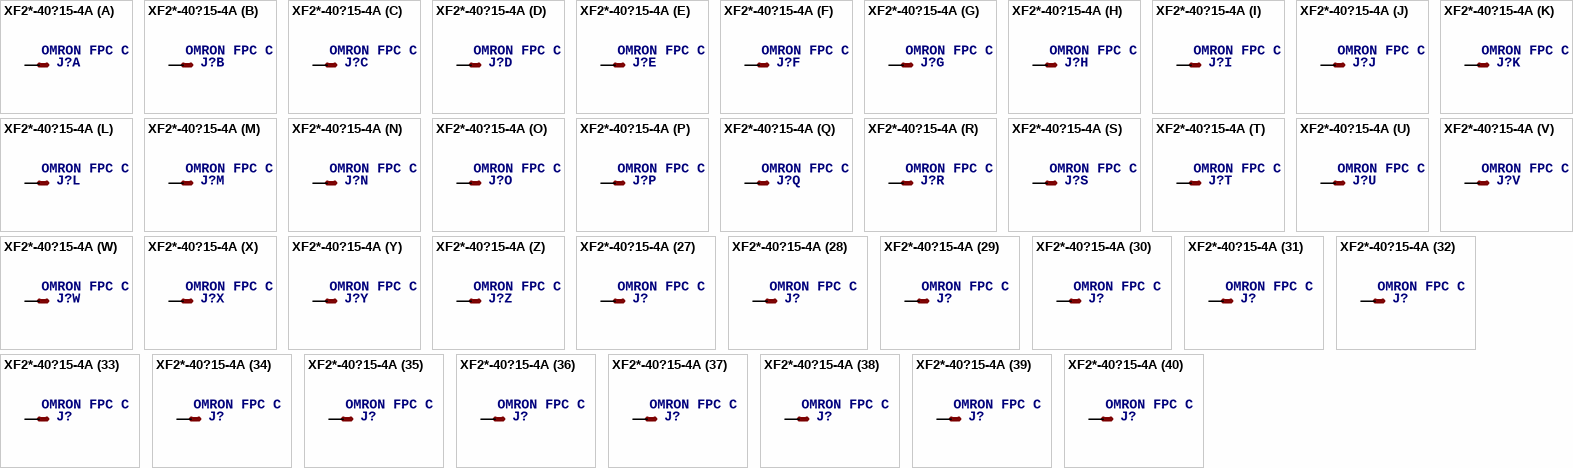
[diagram p43: symbol XF2*-40?15-4A]

## XF2*-40?15-4A
designator J?, comment OMRON FPC Connector   Source : http://www.omron.com/ecb/products/pdf/fpc.pdf
MPN: XF2R-4015-4A; OC_FARNELL: unknown; OC_NEWARK: 37M0948
footprint XF2R-4015-4A
part A pins: 1 MSV
part B pins: 2 MS
part C pins: 3 MS
part D pins: 4 MS
part E pins: 5 MS
part F pins: 6 MS
part G pins: 7 MS
part H pins: 8 MS
part I pins: 9 MS
part J pins: 10 MS
part K pins: 11 MS
part L pins: 12 MS
part M pins: 13 MS
part N pins: 14 MS
part O pins: 15 MS
part P pins: 16 MS
part Q pins: 17 MS
part R pins: 18 MS
part S pins: 19 MS
part T pins: 20 MS
part U pins: 21 MS
part V pins: 22 MS
part W pins: 23 MS
part X pins: 24 MS
part Y pins: 25 MS
part Z pins: 26 MS
part 27 pins: 27 MS
part 28 pins: 28 MS
part 29 pins: 29 MS
part 30 pins: 30 MS
part 31 pins: 31 MS
part 32 pins: 32 MS
part 33 pins: 33 MS
part 34 pins: 34 MS
part 35 pins: 35 MS
part 36 pins: 36 MS
part 37 pins: 37 MS
part 38 pins: 38 MS
part 39 pins: 39 MS
part 40 pins: 40 MS

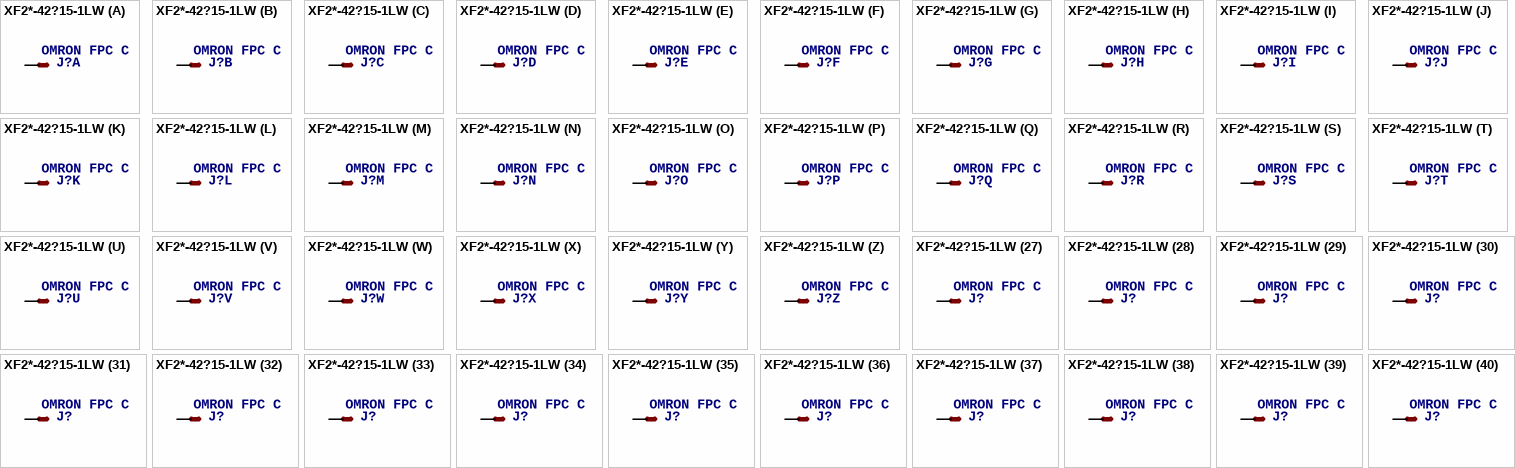
[diagram p44: symbol XF2*-42?15-1LW]

## XF2*-42?15-1LW
designator J?, comment OMRON FPC Connector   Source : http://www.omron.com/ecb/products/pdf/fpc.pdf
OC_FARNELL: unknown; OC_NEWARK: unknown
footprint XF2H-4215-1LW
part A pins: 1 MSV
part B pins: 2 MS
part C pins: 3 MS
part D pins: 4 MS
part E pins: 5 MS
part F pins: 6 MS
part G pins: 7 MS
part H pins: 8 MS
part I pins: 9 MS
part J pins: 10 MS
part K pins: 11 MS
part L pins: 12 MS
part M pins: 13 MS
part N pins: 14 MS
part O pins: 15 MS
part P pins: 16 MS
part Q pins: 17 MS
part R pins: 18 MS
part S pins: 19 MS
part T pins: 20 MS
part U pins: 21 MS
part V pins: 22 MS
part W pins: 23 MS
part X pins: 24 MS
part Y pins: 25 MS
part Z pins: 26 MS
part 27 pins: 27 MS
part 28 pins: 28 MS
part 29 pins: 29 MS
part 30 pins: 30 MS
part 31 pins: 31 MS
part 32 pins: 32 MS
part 33 pins: 33 MS
part 34 pins: 34 MS
part 35 pins: 35 MS
part 36 pins: 36 MS
part 37 pins: 37 MS
part 38 pins: 38 MS
part 39 pins: 39 MS
part 40 pins: 40 MS
part 41 pins: 41 MS
part 42 pins: 42 MS

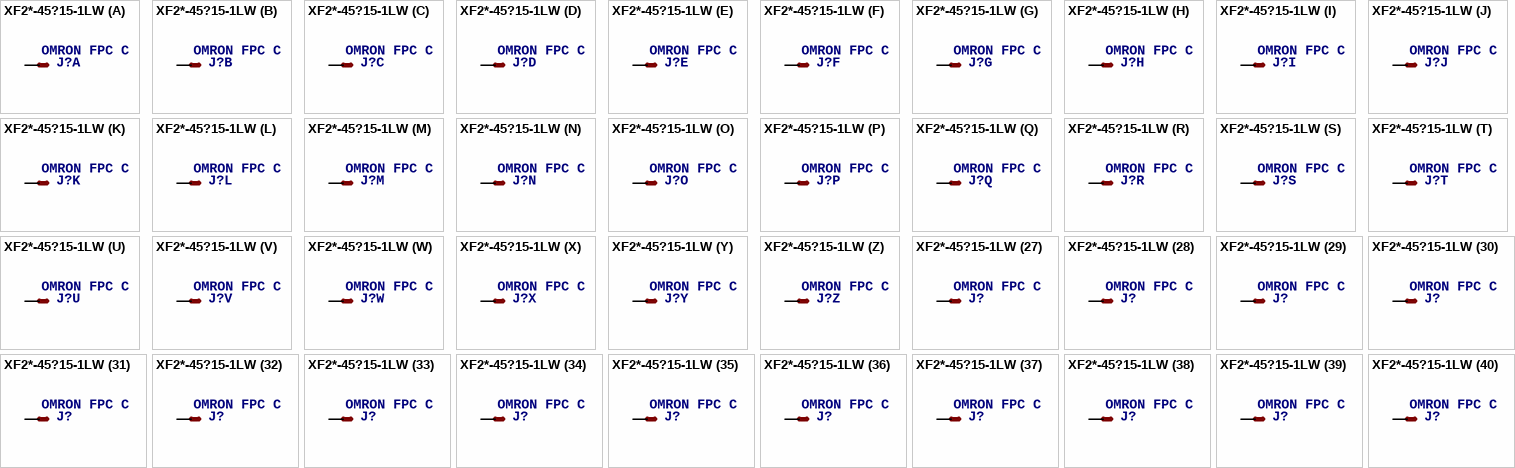
[diagram p45: symbol XF2*-45?15-1LW]

## XF2*-45?15-1LW
designator J?, comment OMRON FPC Connector   Source : http://www.omron.com/ecb/products/pdf/fpc.pdf
OC_FARNELL: unknown; OC_NEWARK: unknown
footprint XF2H-4515-1LW
part A pins: 1 MSV
part B pins: 2 MS
part C pins: 3 MS
part D pins: 4 MS
part E pins: 5 MS
part F pins: 6 MS
part G pins: 7 MS
part H pins: 8 MS
part I pins: 9 MS
part J pins: 10 MS
part K pins: 11 MS
part L pins: 12 MS
part M pins: 13 MS
part N pins: 14 MS
part O pins: 15 MS
part P pins: 16 MS
part Q pins: 17 MS
part R pins: 18 MS
part S pins: 19 MS
part T pins: 20 MS
part U pins: 21 MS
part V pins: 22 MS
part W pins: 23 MS
part X pins: 24 MS
part Y pins: 25 MS
part Z pins: 26 MS
part 27 pins: 27 MS
part 28 pins: 28 MS
part 29 pins: 29 MS
part 30 pins: 30 MS
part 31 pins: 31 MS
part 32 pins: 32 MS
part 33 pins: 33 MS
part 34 pins: 34 MS
part 35 pins: 35 MS
part 36 pins: 36 MS
part 37 pins: 37 MS
part 38 pins: 38 MS
part 39 pins: 39 MS
part 40 pins: 40 MS
part 41 pins: 41 MS
part 42 pins: 42 MS
part 43 pins: 43 MS
part 44 pins: 44 MS
part 45 pins: 45 MS